# Altium schematic symbol library USB2.0&USB3.0.SchLib: 6 symbols
Pins are listed as number, name and electrical type; pins without a type are passive.

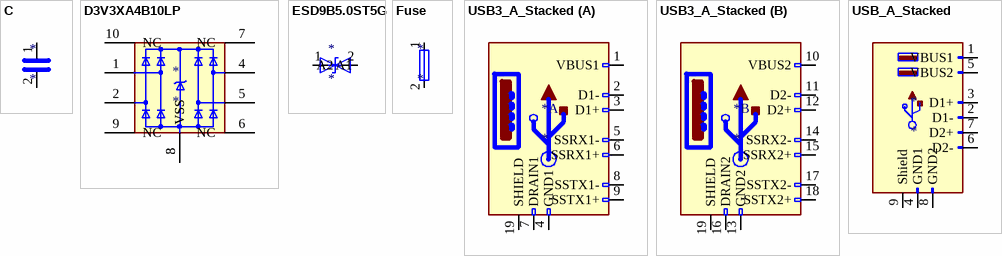
[diagram p0: symbols C to USB_A_Stacked]

## C
designator *
pins: 1, 2

## D3V3XA4B10LP
designator *
pins: 1, 2, 3 VSS, 4, 5, 6 NC, 7 NC, 8 VSS, 9 NC, 10 NC

## ESD9B5.0ST5G
designator *
pins: 1 A1, 2 A2

## Fuse
designator *
pins: 1, 2

## USB3_A_Stacked
designator *
part A pins: 1 VBUS1, 2 D1-, 3 D1+, 4 GND1, 5 SSRX1-, 6 SSRX1+, 7 DRAIN1, 8 SSTX1-, 9 SSTX1+, 19 SHIELD
part B pins: 10 VBUS2, 11 D2-, 12 D2+, 13 GND2, 14 SSRX2-, 15 SSRX2+, 16 DRAIN2, 17 SSTX2-, 18 SSTX2+, 19 SHIELD

## USB_A_Stacked
designator *
pins: 1 VBUS1, 2 D1-, 3 D1+, 4 GND1, 5 VBUS2, 6 D2-, 7 D2+, 8 GND2, 9 Shield